# EAGLE library part AS-ITM-00047 (library tinycircuits)
CONN MICRO SD R/A PUSH-PULL SMD
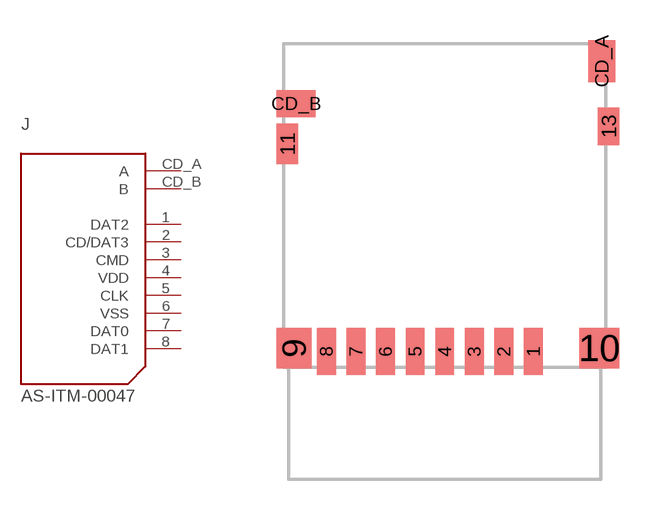
[diagram p14: symbol with the pads of SD_CARD; footprint SD_CARD]

Designator prefix J

## AS-ITM-00047 (PARTNO: AS-ITM-00047; PNPROTATION: 270; VALUE: DM3D-SF)  [SD_CARD]
1  DAT2
2  CD/DAT3
3  CMD
4  VDD
5  CLK
6  VSS
7  DAT0
8  DAT1
CD_A  A
CD_B  B

## Footprint SD_CARD (pad centres in mm)
smd 0.7 x 1.75: 1 3.3,0; 2 2.2,0; 3 1.1,0; 4 0,0; 5 -1.1,0; 6 -2.2,0; 7 -3.3,0; 8 -4.4,0
smd 1.3 x 1.5: 9 -5.6,0.125
smd 1.5 x 1.5: 10 5.75,0.125
smd 0.8 x 1.5: 11 -5.85,7.725
smd 0.8 x 1.4: 13 6.1,8.375
smd 1 x 1.55: CD_A 5.85,10.8
smd 1.45 x 1: CD_B -5.525,9.225